# EAGLE library part CARD_EDGE_12_MALE (library Clean-Kong)
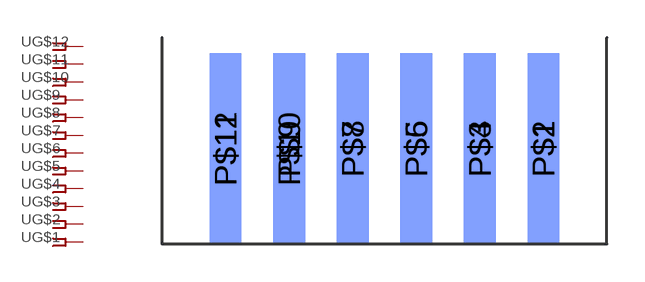
[diagram p15: symbol with the pads of CARD_EDGE_12_MALE; footprint CARD_EDGE_12_MALE]

Designator prefix -; gates G$1=FPINV G$2=FPINV G$3=FPINV G$4=FPINV G$5=FPINV G$6=FPINV G$7=FPINV G$8=FPINV G$9=FPINV G$10=FPINV G$11=FPINV G$12=FPINV

## CARD_EDGE_12_MALE  [CARD_EDGE_12_MALE]
P$1  G$1:1  pas
P$2  G$2:1  pas
P$3  G$3:1  pas
P$4  G$4:1  pas
P$5  G$5:1  pas
P$6  G$6:1  pas
P$7  G$7:1  pas
P$8  G$8:1  pas
P$9  G$9:1  pas
P$10  G$10:1  pas
P$11  G$11:1  pas
P$12  G$12:1  pas

## Footprint CARD_EDGE_12_MALE (pad centres in mm)
smd 1.27 x 7.62 bottom: P$1 12.7,3.81; P$3 10.16,3.81; P$5 7.62,3.81; P$7 5.08,3.81; P$9 2.54,3.81; P$11 0,3.81
smd 1.27 x 7.62: P$2 12.7,3.81; P$4 10.16,3.81; P$6 7.62,3.81; P$8 5.08,3.81; P$10 2.54,3.81; P$12 0,3.81